# Altium schematic symbol library MY_Fairchild_MOSFETS.SchLib: 4 symbols
Pins are listed as number, name and electrical type; pins without a type are passive.

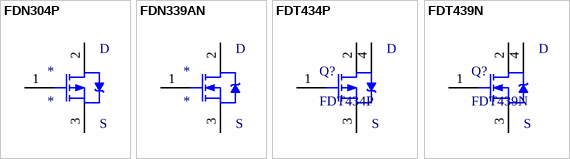
[diagram p0: symbols FDN304P to FDT439N]

## FDN304P
designator *
Pch MOSFET
footprint SOT23-3M (SOT23, 3-Leads, Body 2.9x1.3mm, Pitch 0.95mm, Lead Span 2.5mm, IPC Low Density); pin to pad 2>3 3>2
pins: 1 G, 2 D, 3 S

## FDN339AN
designator *
Nch MOSFET
footprint SOT23-3M (SOT23, 3-Leads, Body 2.9x1.3mm, Pitch 0.95mm, Lead Span 2.5mm, IPC Low Density); pin to pad 2>3 3>2
pins: 1 G, 2 D, 3 S

## FDT434P
designator Q?
P ch MOSFET
footprint sot223-4m (SOT223/SC73, 4-Leads, Body 6.5x3.5mm, Pitch 2.3mm, Lead Span 7mm, IPC Low Density)
pins: 1 G, 2 D, 3 S, 4 D "Pin 4"

## FDT439N
designator Q?
N ch MOSFET
footprint SOT223-4M (SOT223/SC73, 4-Leads, Body 6.5x3.5mm, Pitch 2.3mm, Lead Span 7mm, IPC Low Density)
pins: 1 G, 2 D, 3 S, 4 D "Pin 4"